# Altium footprint library ТИЛ6В.PcbLib: 1 footprints
Each footprint in its own frame and in the unit in brackets; x right, y up, seen from the top. Pads: shape width x height; smd on the part's side, far side on the other; paste and mask are expansions set on the pad; w line width, h text height; cw(c..) or ccw(c..) is an arc to the next point about the centre after c.
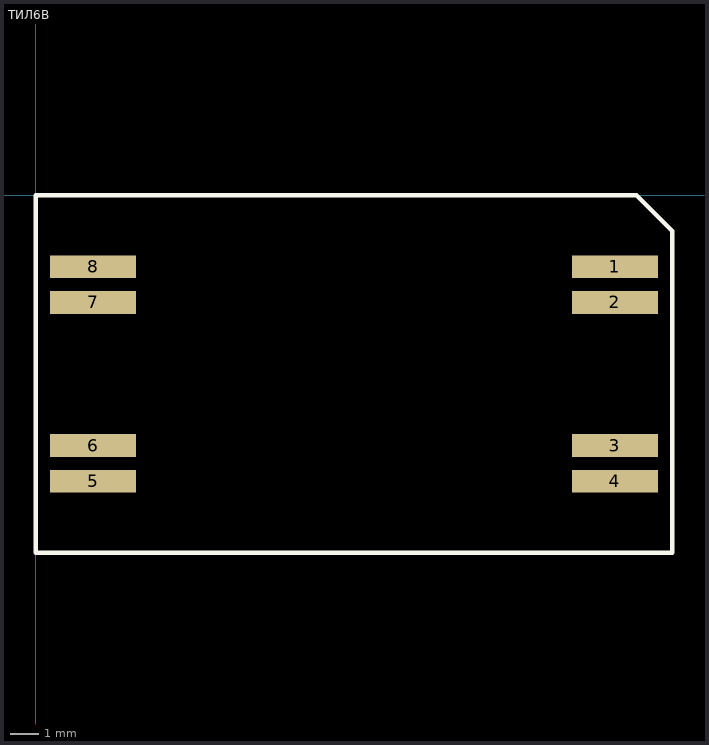
[diagram p0: the footprint, top view; thin cyan lines are the x and y axes]

## ТИЛ6В [mil]
pads (8):
  rect 120x32 smd: 1(810,-100) 2(810,-150) 3(810,-350) 4(810,-400) 5(80,-400) 6(80,-350) 7(80,-150) 8(80,-100)
Top Overlay:
  lines w6: 0,-500 420,-500 890,-500 890,-50 840,0 0,0 0,-500
3D body: height 256, standoff 0, extent 207.5,-495 682.5,0